# Altium footprint library BatteryIot -V2.PcbLib: 31 footprints (part 2 of 2)
Each footprint in its own frame and in the unit in brackets; x right, y up, seen from the top. Pads: shape width x height; smd on the part's side, far side on the other; paste and mask are expansions set on the pad; w line width, h text height; cw(c..) or ccw(c..) is an arc to the next point about the centre after c.
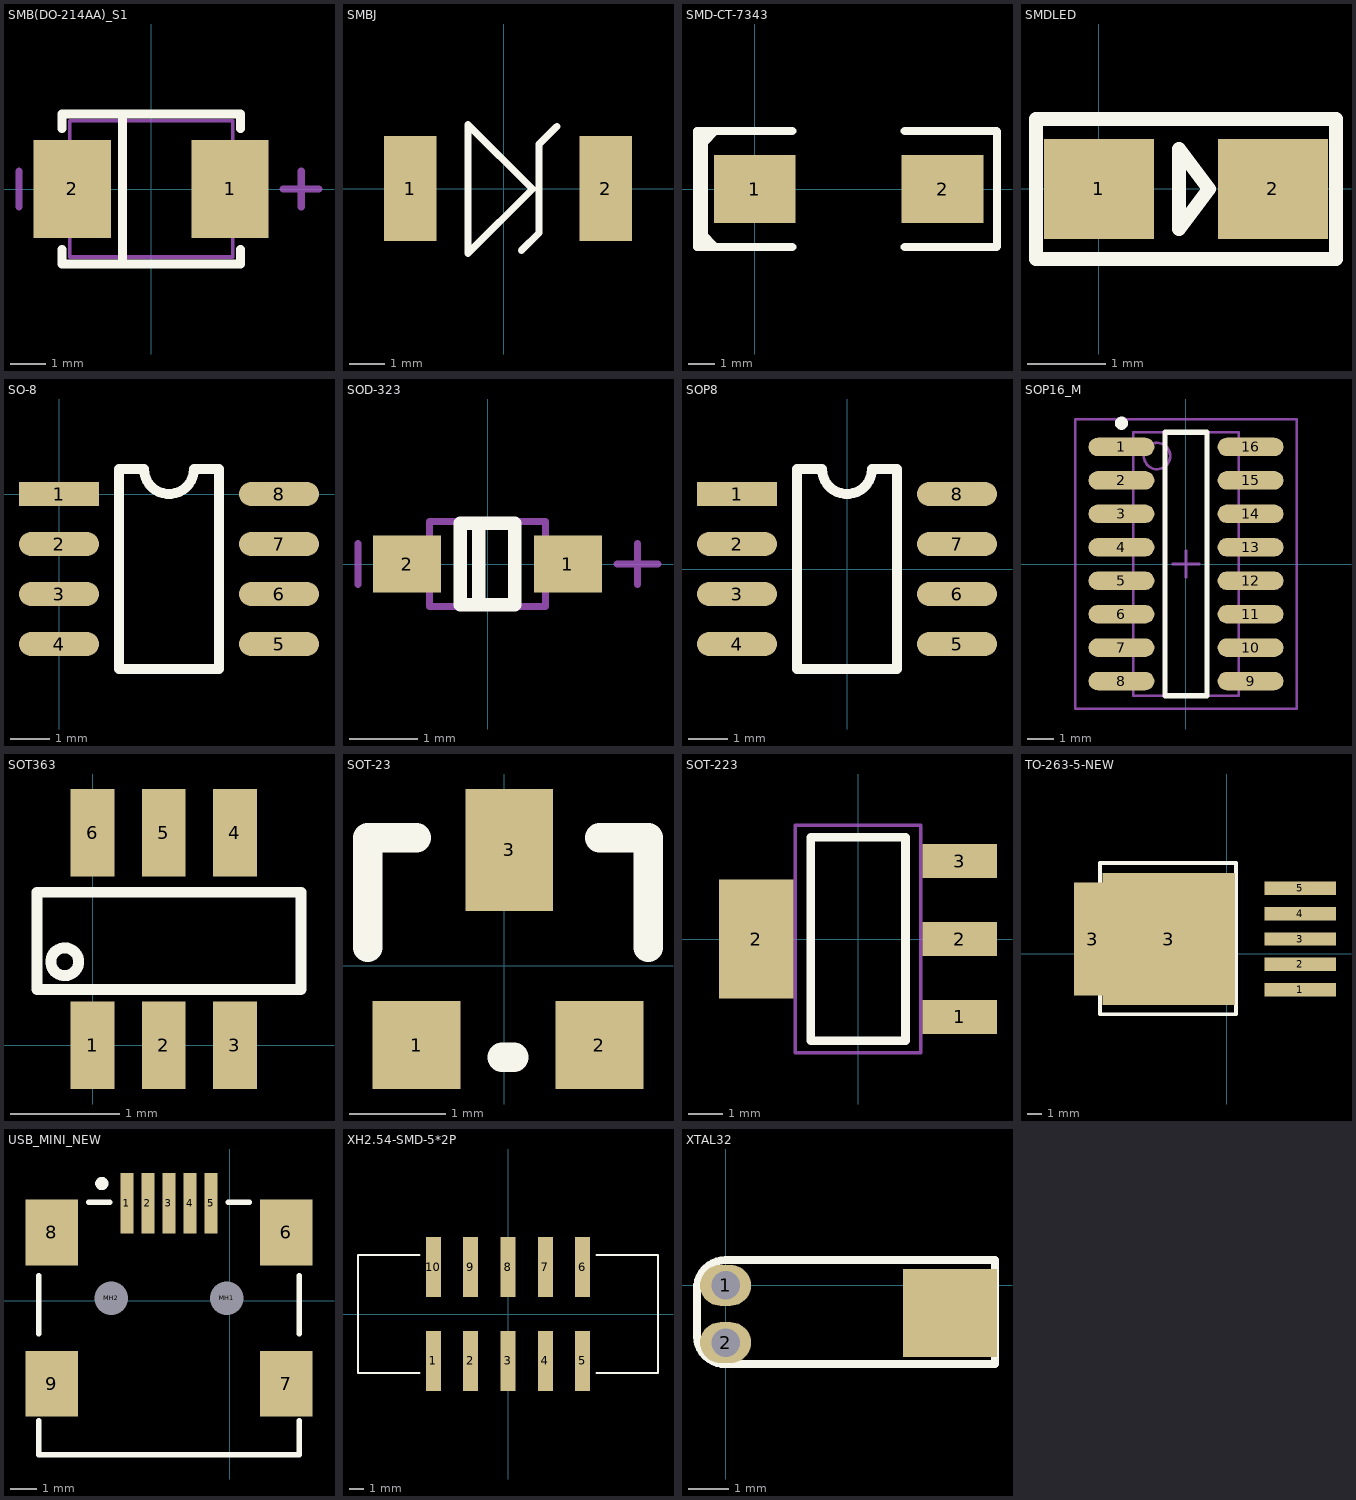
[diagram p1: the footprints below, top view; thin cyan lines are the x and y axes]

## SMB(DO-214AA)_S1 [mm]
height 29
pads (2):
  rect 2.159x2.743 smd: 1(2.21,0) 2(-2.21,0)
Top Overlay:
  lines w0.254: -2.5,-1.7 -2.5,-2.1 2.5,-2.1 2.5,-1.7 ; -2.5,1.7 -2.5,2.1 2.5,2.1 2.5,1.7 ; -0.8,-2.1 -0.8,2.1
Mechanical 13:
  lines w0.1: -2.285,-1.905 2.285,-1.905 2.285,1.905 -2.285,1.905 -2.285,-1.905
Mechanical 15:
  lines w0.203: -3.7,-0.5 -3.7,0.5 ; 3.7,0 4.7,0 ; 4.2,-0.5 4.2,0.5

## SMBJ [mm]
height 29
pads (2):
  rect 1.5x3 smd: 1(-2.667,0) 2(2.921,0)
Top Overlay:
  lines w0.203: 0.508,-1.778 1.016,-1.27 1.016,1.27 1.524,1.778 ; -1.016,-1.854 -1.016,1.829 0.826,-0.013 -1.016,-1.854

## SMD-CT-7343 [mil]
pads (2):
  rect 120x100 smd: 1(0,0) 2(275.59,0)
Top Overlay:
  lines w10: -75,-67 -59,-83 -59,-85 ; -75,68 -75,67 -57,85 -56,85
  lines w12: -75,-85 -75,85 ; 55,-85 -85,-85 -85,85 55,85 ; 220,-85 355,-85 355.59,-84.41 355.59,-70 355.59,70 355.59,84.41 355,85 220,85

## SMDLED [mm]
height 29
pads (2):
  rect 1.4x1.27 smd: 1(0.001,-0.002) 2(2.211,-0.002)
Top Overlay:
  lines w0.178: 3.012,0.887 3.011,0.887 ; 3.011,0.887 -0.799,0.887 -0.799,-0.002 -0.799,-0.891 3.011,-0.891 3.011,0.887 ; 1.017,-0.51 1.398,-0.002 1.017,0.506 1.017,-0.51

## SO-8 [mil]
height 1141.73
pads (8):
  rect 80x24 smd: 1(0,0)
  oval 80x24 smd: 2(0,-50) 3(0,-100) 4(0,-150) 5(220,-150) 6(220,-100) 7(220,-50) 8(220,0)
Top Overlay:
  lines w10: 60,-175 160,-175 160,25 135,25 cw(c110,25) 85,25 60,25 60,-175

## SOD-323 [mm]
height 29
pads (2):
  rect 1x0.83 smd: 1(1.18,0) 2(-1.18,0)
Top Overlay:
  lines w0.2: -0.13,-0.6 -0.13,0.6 ; -0.4,-0.6 -0.4,0.6 0.4,0.6 0.4,-0.6 -0.4,-0.6
Mechanical 13:
  lines w0.1: -0.85,-0.625 -0.85,0.625 0.85,0.625 0.85,-0.625 -0.85,-0.625
Mechanical 15:
  lines w0.1: -1.9,-0.3 -1.9,0.3 ; 1.9,0 2.5,0 ; 2.2,-0.3 2.2,0.3
3D body "SOD323.STEP": height 1.1, standoff 0, extent -1.35,-0.625 1.35,0.625

## SOP8 [mil]
height 1141.73
pads (8):
  rect 80x24 smd: 1(-110,75)
  oval 80x24 smd: 2(-110,25) 3(-110,-25) 4(-110,-75) 5(110,-75) 6(110,-25) 7(110,25) 8(110,75)
Top Overlay:
  lines w10: -50,-100 -50,100 -25,100 ccw(c0,100) 25,100 50,100 50,-100 -50,-100

## SOP16_M [mm]
height 12.75
pads (16):
  oval 2.5x0.7 smd: 1(-2.45,4.445) 2(-2.45,3.175) 3(-2.45,1.905) 4(-2.45,0.635) 5(-2.45,-0.635) 6(-2.45,-1.905) 7(-2.45,-3.175) 8(-2.45,-4.445) 9(2.45,-4.445) 10(2.45,-3.175) 11(2.45,-1.905) 12(2.45,-0.635) 13(2.45,0.635) 14(2.45,1.905) 15(2.45,3.175) 16(2.45,4.445)
Top Overlay:
  circle w0.25: c-2.45,5.345 r0.125
  lines w0.2: -0.8,-5 -0.8,5 0.8,5 0.8,-5 -0.8,-5
Mechanical 13:
  circle w0.1: c-1.1,4.1 r0.5
  lines w0.1: -2,-5 -2,5 2,5 2,-5 -2,-5
Mechanical 15:
  lines w0.1: -0.5,0 0.5,0 ; 0,-0.5 0,0.5 ; -4.2,-5.5 -4.2,5.5 4.2,5.5 4.2,-5.5 -4.2,-5.5
3D body: height 1.75, standoff 0, extent -2,-5 2,5

## SOT363 [mm]
height 29
pads (6):
  rect 0.4x0.8 smd: 1(0,0) 2(0.65,0) 3(1.3,0) 4(1.3,1.94) 5(0.65,1.94) 6(0,1.94)
Top Overlay:
  circle w0.1: c-0.254,0.762 r0.127
  lines w0.1: -0.508,0.508 1.905,0.508 1.905,1.397 -0.508,1.397 -0.508,0.508

## SOT-23 [mil]
height 1141.73
pads (3):
  rect 36x36 smd: 1(-36.06,-32.44) 2(38.94,-32.44)
  rect 36x50 smd: 3(1.94,47.56)
Top Overlay:
  lines w12: -56.06,7.56 -56.06,52.56 -36.06,52.56 ; -1.06,-37.44 3.94,-37.44 ; 38.94,52.56 58.94,52.56 58.94,7.56

## SOT-223 [mm]
height 1.7
pads (4):
  rect 2.2x1 smd: 1(3,-2.3) 2(3,0) 3(3,2.3)
  rect 2.2x3.5 smd: 2(-3,0)
Top Overlay:
  lines w0.254: -1.4,-3 -1.4,3 1.4,3 1.4,-3 -1.4,-3
Mechanical 13:
  lines w0.1: -1.85,-3.35 1.85,-3.35 1.85,3.35 -1.85,3.35 -1.85,-3.35
3D body "TO-223.STEP": height 1.64, standoff -0.04, extent -3.49,-3.242 3.49,3.243

## TO-263-5-NEW [mm]
height 4.5
pads (7):
  rect 4.8x0.9 smd: 1(4.95,-2.402) 2(4.95,-0.701) 3(4.95,1.001) 4(4.95,2.703) 5(4.95,4.405)
  rect 2.5x7.62 smd: 3(-9,1)
  rect 8.89x8.89 smd: 3(-3.889,1)
Top Overlay:
  lines w0.254: -8.505,-4.053 0.639,-4.053 0.639,6.107 -8.505,6.107 -8.505,-4.053

## USB_MINI_NEW [mm]
pads (11):
  rect 0.5x2.3 smd: 1(-3.914,3.687) 2(-3.114,3.687) 3(-2.314,3.687) 4(-1.514,3.687) 5(-0.714,3.687)
  rect 2x2.5 smd: 6(2.136,2.587) 7(2.136,-3.167) 8(-6.764,2.587) 9(-6.764,-3.167)
  round 0.6 hole 1.27 unplated: MH1(-0.114,0.087) MH2(-4.514,0.087)
Top Overlay:
  circle w0.25: c-4.867,4.445 r0.125
  lines w0.2: -7.264,-4.563 -7.264,-5.863 2.636,-5.863 2.636,-4.563 ; -7.264,-1.263 -7.264,0.937 ; -5.364,3.737 -4.564,3.737 ; -0.064,3.737 0.736,3.737 ; 2.636,-1.263 2.636,0.937

## XH2.54-SMD-5*2P [mm]
height 10
pads (10):
  rect 1.02x4.1 smd: 1(-5.08,-3.194) 2(-2.54,-3.194) 3(0,-3.194) 4(2.54,-3.194) 5(5.08,-3.194) 6(5.08,3.194) 7(2.54,3.194) 8(0,3.194) 9(-2.54,3.194) 10(-5.08,3.194)
Top Overlay:
  lines w0.127: -6,-4 -10.2,-4 -10.2,4 -6,4 ; 6,-4 10.2,-4 10.2,4 6,4

## XTAL32 [mil]
height 1141.73
pads (3):
  oval 50x40 hole 28: 1(0,0) 2(0,-56)
  rect 92.13x86 smd: ""(220,-27)
Top Overlay:
  lines w8: -28,-50 ccw(c-0.5,-49.5) 0,-77 264,-77 264,25 0,25 ccw(c0.5,-3.5) -28,-4 -28,-50